# Altium schematic symbol library OLED connector.SchLib: 1 symbol
Pins are listed as number, name and electrical type; pins without a type are passive.

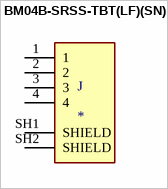
[diagram p0: symbol BM04B-SRSS-TBT(LF)(SN)]

## BM04B-SRSS-TBT(LF)(SN)
designator J
Connector Header Surface Mount 4 position 0.039 _1.00mm_; MF: JST Sales; MP: BM04B-SRSS-TBT_LF__SN_; Price: None; Availability: Unavailable; SnapEDA_Link: https://www.snapeda.com/parts/BM04B-SRSS-TBT%28LF%29%28SN%29/JST%20Sales%20America%20Inc./view-part/1647403/?ref=snap; Value: *; Package: None
footprint CONN_BM04B-SRSS-TBT(LF)(SN)
pins: 1, 2, 3, 4, SH1 SHIELD, SH2 SHIELD